# Altium schematic symbol library BJT_PNP_Toshiba_TMBT3906.SchLib: 1 symbol
Pins are listed as number, name and electrical type; pins without a type are passive.

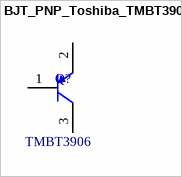
[diagram p0: symbol BJT_PNP_Toshiba_TMBT3906]

## BJT_PNP_Toshiba_TMBT3906
designator Q?  Series: TMBT3906  (hidden comment: BJT_PNP_Toshiba_TMBT3906)
Bipolar Transistors - BJT Transistor for Low Freq. Amplification; Manufacturer Part Number 1: TMBT3906,LM; Supplier Part Number 1: 757-TMBT3906LM; Supplier 1: Mouser; Manufacturer: Toshiba
footprint BJT_PNP_Toshiba_TMBT3906
pins: 1 B, 2 E, 3 C